# Altium footprint library PCB1.PcbLib: 26 footprints (part 1 of 2)
Each footprint in its own frame and in the unit in brackets; x right, y up, seen from the top. Pads: shape width x height; smd on the part's side, far side on the other; paste and mask are expansions set on the pad; w line width, h text height; cw(c..) or ccw(c..) is an arc to the next point about the centre after c.
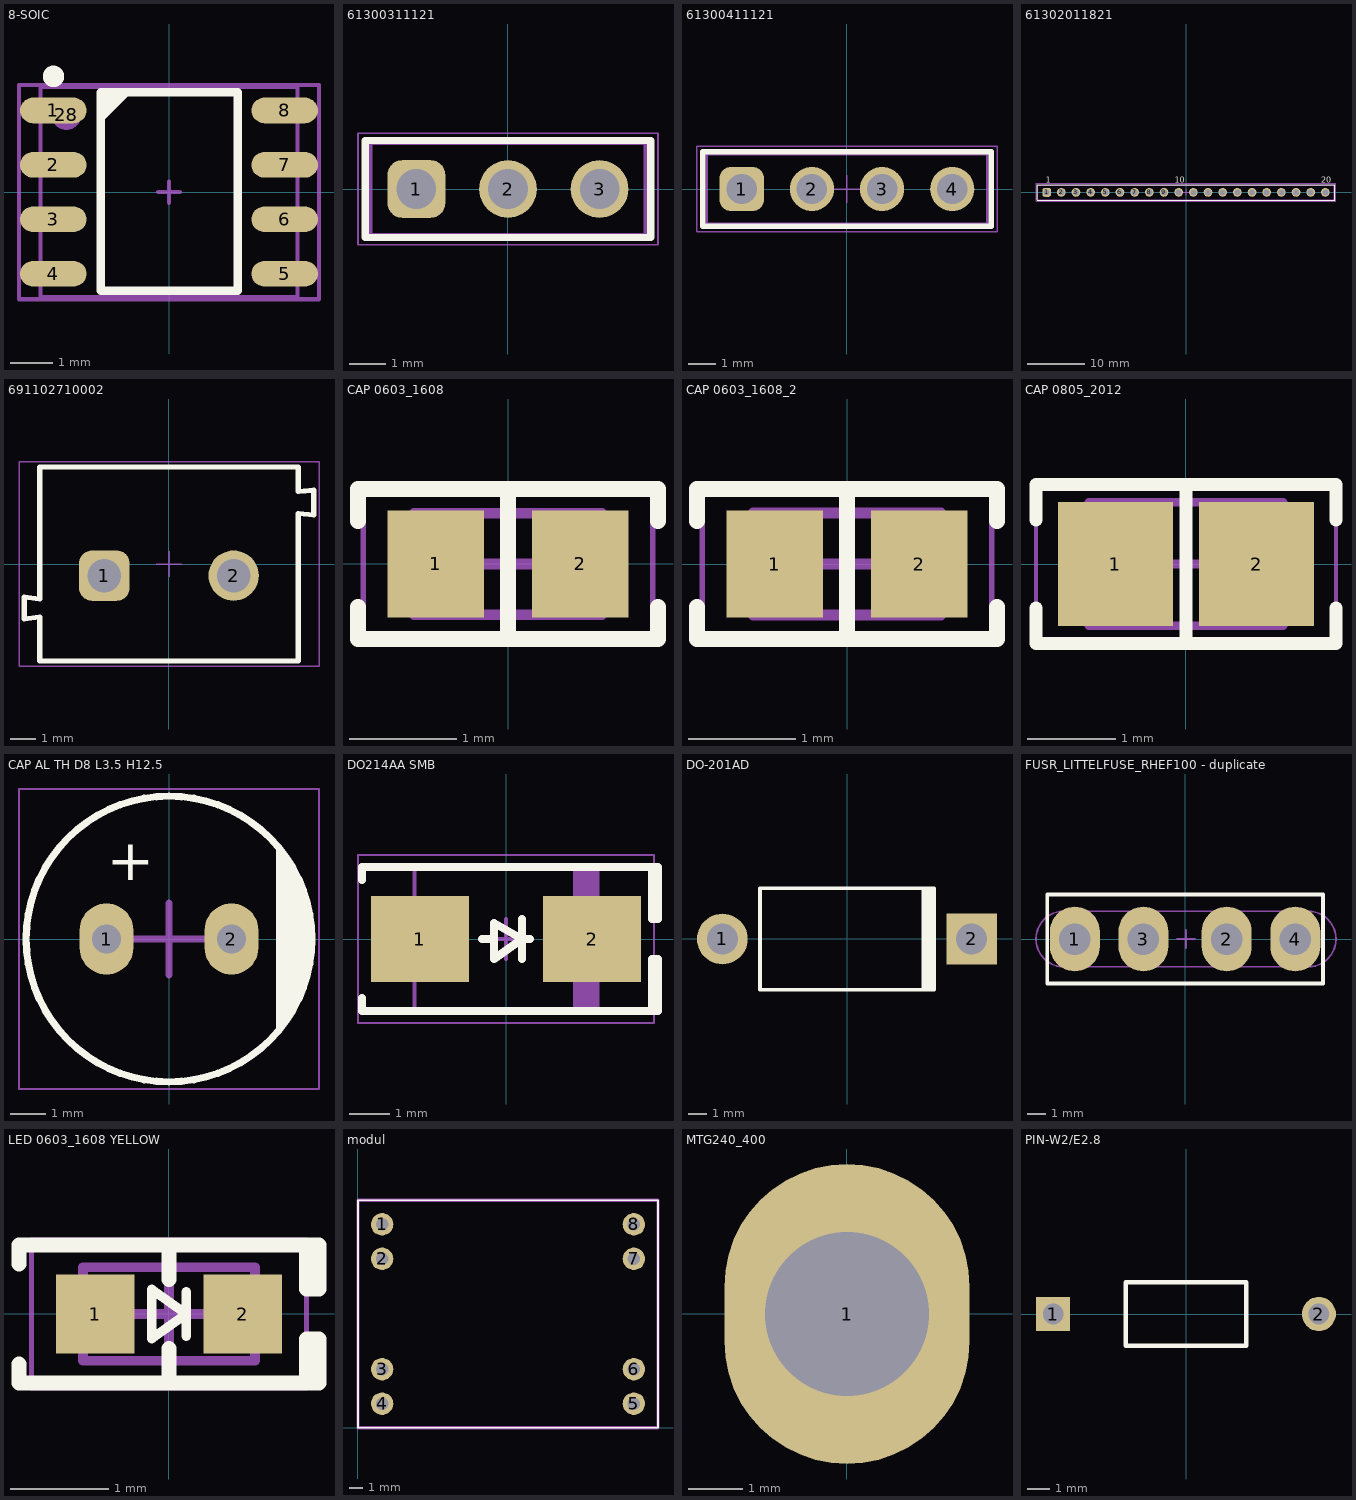
[diagram p0: the footprints below, top view; thin cyan lines are the x and y axes]

## 8-SOIC [mm] "pitch 1.27 mm"
pads (9):
  rrect100% 1.55x0.6 smd: 1(-2.7,1.905) 2(-2.7,0.635) 3(-2.7,-0.635) 4(-2.7,-1.905) 5(2.7,-1.905) 6(2.7,-0.635) 7(2.7,0.635) 8(2.7,1.905)
  round 0.7 on Mech1: 28(-2.395,1.8)
Top Overlay:
  circle w0.25: c-2.695,2.7 r0.125
  region: -1.595,2.325 -1.595,1.605 -0.875,2.325
  lines w0.2: -1.595,-2.3 1.605,-2.3 1.605,2.325 -1.595,2.325 -1.595,-2.3
Mechanical 1:
  lines w0.1: -3,-2.45 -3,2.45 3,2.45 3,-2.45 -3,-2.45
Mechanical 15:
  lines w0.1: -0.25,0 0.25,0 ; 0,-0.25 0,0.25 ; -3.5,-2.5 -3.5,2.5 3.5,2.5 3.5,-2.5 -3.5,-2.5
3D body "User Library-SOIC-8-1.STEP": height 1.75, standoff 0, extent -3,-2.45 3,2.45

## 61300311121 [mm] "Pin Header, pitch 2.54 mm, THT, Vertical, single row, 3p"
height 8.54
pads (3):
  rrect50% 1.6x1.6 hole 1.1: 1(-2.54,0)
  round 1.6 hole 1.1: 2(0,0) 3(2.54,0)
Top Overlay:
  lines w0.2: -3.96,-1.345 3.96,-1.345 3.96,1.345 -3.96,1.345 -3.96,-1.345
Top 3D Body:
  lines w0.1: -3.81,-1.27 -3.81,1.27 3.81,1.27 3.81,-1.27 -3.81,-1.27
Top Courtyard:
  lines w0.05: -0.5,0 0.5,0 ; 0,-0.5 0,0.5 ; -4.16,-1.545 -4.16,1.545 4.16,1.545 4.16,-1.545 -4.16,-1.545
Top Assembly:
  lines w0.1: -3.81,-1.27 -3.81,1.27 3.81,1.27 3.81,-1.27 -3.81,-1.27
  text ".Designator" at -7.498,-0.5 h1.5
3D body "61300311121.stp": height 8.57, standoff -2.97, extent -3.81,-1.27 3.81,1.27

## 61300411121 [mm] "Pin Header, pitch 2.54 mm, THT, Vertical, single row, 4p"
height 8.54
pads (4):
  rrect50% 1.6x1.6 hole 1.1: 1(-3.81,0)
  round 1.6 hole 1.1: 2(-1.27,0) 3(1.27,0) 4(3.81,0)
Top Overlay:
  lines w0.2: -5.23,-1.345 -5.23,1.345 5.23,1.345 5.23,-1.345 -5.23,-1.345
Top 3D Body:
  lines w0.1: -5.08,-1.27 5.08,-1.27 5.08,1.27 -5.08,1.27 -5.08,-1.27
Top Courtyard:
  lines w0.05: -0.5,0 0.5,0 ; 0,-0.5 0,0.5 ; -5.43,-1.545 5.43,-1.545 5.43,1.545 -5.43,1.545 -5.43,-1.545
Top Assembly:
  lines w0.1: -5.08,-1.27 5.08,-1.27 5.08,1.27 -5.08,1.27 -5.08,-1.27
  text ".Designator" at -7.498,-0.5 h1.5
3D body "61300411121.stp": height 8.57, standoff -2.97, extent -5.08,-1.27 5.08,1.27

## 61302011821 [mm] "Socket Header, Pitch 2.54 mm, THT, Vertical, single row, 20p"
height 8.5
pads (20):
  rrect50% 1.52x1.52 hole 1.02: 1(-24.13,0)
  round 1.52 hole 1.02: 2(-21.59,0) 3(-19.05,0) 4(-16.51,0) 5(-13.97,0) 6(-11.43,0) 7(-8.89,0) 8(-6.35,0) 9(-3.81,0) 10(-1.27,0) 11(1.27,0) 12(3.81,0) 13(6.35,0) 14(8.89,0) 15(11.43,0) 16(13.97,0) 17(16.51,0) 18(19.05,0) 19(21.59,0) 20(24.13,0)
Top Overlay:
  lines w0.2: -25.775,-1.35 -25.775,1.35 25.775,1.35 25.775,-1.35 -25.775,-1.35
  text "10" at -1.95,1.7 h1.02
  text "1" at -24.32,1.7 h1.02
  text "20" at 23.4,1.7 h1.02
Top 3D Body:
  lines w0.1: -25.65,-1.25 -25.65,1.25 25.65,1.25 25.65,-1.25 -25.65,-1.25
Top Courtyard:
  lines w0.05: -0.5,0 0.5,0 ; 0,-0.5 0,0.5 ; -25.975,-1.55 -25.975,1.55 25.975,1.55 25.975,-1.55 -25.975,-1.55
Top Assembly:
  lines w0.1: -25.65,-1.25 -25.65,1.25 25.65,1.25 25.65,-1.25 -25.65,-1.25
  text ".Designator" at -7.498,-0.5 h1.5
3D body "61302011821.stp": height 8.55, standoff -3.06, extent -25.65,-1.25 25.65,1.25

## 691102710002 [mm] "5,00mm - modular - blue - Horizontal entry with pressure clamp - 9,9 mm height - 02p"
height 9.9
pads (2):
  rrect50% 1.95x1.95 hole 1.3: 1(-2.5,-0.45)
  round 1.95 hole 1.3: 2(2.5,-0.45)
Top Overlay:
  lines w0.2: -5.6,-2.125 -5.6,-1.275 -5,-1.35 -5,3.75 5,3.75 5,2.8 5.6,2.85 5.6,1.9 5,1.95 5,-3.75 -5,-3.75 -5,-2.05 -5.6,-2.125
Mechanical 11:
  lines w0.1: -5.6,-2.125 -5,-2.05 -5,-3.75 5,-3.75 5,1.95 5.6,1.9 5.6,2.85 5,2.8 5,3.75 -5,3.75 -5,-1.35 -5.6,-1.275 -5.6,-2.125
  text ".Designator" at -1.75,-0.75 h1.5
Mechanical 13:
  lines w0.1: -5.6,-2.125 -5.6,-1.275 -5,-1.35 -5,3.75 5,3.75 5,2.8 5.6,2.85 5.6,1.9 5,1.95 5,-3.75 -5,-3.75 -5,-2.05 -5.6,-2.125
Mechanical 15:
  lines w0.05: -0.5,0 0.5,0 ; 0,-0.5 0,0.5 ; -5.8,-3.95 -5.8,3.95 5.8,3.95 5.8,-3.95 -5.8,-3.95
3D body "691102710002.stp": height 9.96, standoff -3.44, extent -5.6,-3.75 5.6,3.75

## CAP 0603_1608 [mm] "Chip Capacitor, 2-Leads, Body 1.60x0.80mm, IPC Medium Density"
height 0.89
pads (2):
  rect 0.9x1 smd: 1(-0.675,0) 2(0.675,0)
Top Overlay:
  lines w0.15: -1.4,-0.4 -1.4,-0.7 1.4,-0.7 1.4,-0.4 ; -1.4,0.4 -1.4,0.7 1.4,0.7 1.4,0.4 ; 0,-0.7 0,0.7
Mechanical 13:
  lines w0.1: -0.875,-0.475 0.875,-0.475 0.875,0.475 -0.875,0.475 -0.875,-0.475
Mechanical 15:
  lines w0.05: -1.35,-0.75 1.35,-0.75 1.35,0.75 -1.35,0.75 -1.35,-0.75
  lines w0.1: -0.475,0 0.475,0 ; 0,-0.475 0,0.475
3D body "0603 cap.STEP": height 0.82, standoff 0, extent -0.8,-0.412 0.8,0.412

## CAP 0603_1608_2 [mm]
pads (2):
  rect 0.9x1 smd: 1(-0.675,0) 2(0.675,0)
Top Overlay:
  lines w0.15: -1.4,-0.4 -1.4,-0.7 1.4,-0.7 1.4,-0.4 ; -1.4,0.4 -1.4,0.7 1.4,0.7 1.4,0.4 ; 0,-0.7 0,0.7
Mechanical 13:
  lines w0.1: -0.875,-0.475 -0.875,0.475 0.875,0.475 0.875,-0.475 -0.875,-0.475
Mechanical 15:
  lines w0.05: -1.35,-0.75 -1.35,0.75 1.35,0.75 1.35,-0.75 -1.35,-0.75
  lines w0.1: -0.475,0 0.475,0 ; 0,-0.475 0,0.475
3D body "0603 cap.STEP": height 0.82, standoff 0, extent -0.8,-0.412 0.8,0.412

## CAP 0805_2012 [mm] "Chip Capacitor, 2-Leads, Body 2.00x1.20mm, IPC Medium Density"
height 1.15
pads (2):
  rect 1.3x1.4 smd: 1(-0.8,0) 2(0.8,0)
Top Overlay:
  lines w0.15: -1.7,-0.5 -1.7,-0.9 1.7,-0.9 1.7,-0.5 ; -1.7,0.5 -1.7,0.9 1.7,0.9 1.7,0.5 ; 0,-0.9 0,0.9
Mechanical 13:
  lines w0.1: -1.1,-0.7 1.1,-0.7 1.1,0.7 -1.1,0.7 -1.1,-0.7
Mechanical 15:
  lines w0.05: -1.7,-0.95 1.7,-0.95 1.7,0.95 -1.7,0.95 -1.7,-0.95
  lines w0.1: -0.5,0 0.5,0 ; 0,-0.5 0,0.5
3D body "0805 cap.STEP": height 1.26, standoff -0.02, extent -1,-0.637 1,0.637

## CAP AL TH D8 L3.5 H12.5 [mm] "8MM Diameter, 3.5MM Lead Spacing Aluminium Capacitor"
height 12.5
pads (2):
  oval 1.5x2 hole 0.8: 1(-1.75,0) 2(1.75,0)
Top Overlay:
  circle w0.2: c0,0 r4
  region: 3,2.5 3.5,2 4,0.5 4,-0.75 3.75,-1.5 3.25,-2.25 3,-2.75
  text "+" at -1.75,1.25 h2
Mechanical 13:
  circle w0.1: c0,0 r4
  lines w0.1: 3.1,-2.5 3.1,2.5
Mechanical 15:
  lines w0.05: -4.2,-4.2 -4.2,4.2 4.2,4.2 4.2,-4.2 -4.2,-4.2
  lines w0.2: -1,0 1,0 ; 0,-1 0,1
3D body "CAP ALTH D8 L3.5 H12.5.step": height 11.5, standoff -2.5, extent -4,-4 4,4

## DO214AA SMB [mm] "Molded Diode, 2-Leads, Body 4.31x3.62mm, IPC Medium Density"
height 2.44
pads (2):
  rect 2.45x2.15 smd: 1(-2.15,0) 2(2.15,0)
Top Overlay:
  lines w0.2: -3.6,-1.475 -3.6,-1.8 3.8,-1.8 3.8,-0.5 3.65,-0.5 3.65,-1.8 ; -3.6,1.475 -3.6,1.8 3.8,1.8 3.8,0.5 3.65,0.5 3.65,1.8 ; -0.6,0 -0.3,0 ; 0.4,-0.5 0.4,0.5 ; 0.6,0 0.4,0 ; 0.4,0 -0.3,0.4 -0.3,-0.5 0.4,0
Mechanical 13:
  rectangle: 1.67,-1.8 2.285,1.8
  lines w0.1: -2.285,-1.8 2.285,-1.8 2.285,1.8 -2.285,1.8 -2.285,-1.8
Mechanical 15:
  lines w0.05: -3.7,-2.1 3.7,-2.1 3.7,2.1 -3.7,2.1 -3.7,-2.1
  lines w0.1: -0.5,0 0.5,0 ; 0,-0.5 0,0.5
3D body "SMB.STEP": height 2.4, standoff 0, extent -2.6,-1.799 2.6,1.8

## DO-201AD [mm] "Diode, Axial; Body 9.5 x 5.6 mm (LxDia. max), Lead Dia. 1.32 mm (max)"
height 5.6
pads (2):
  round 2.8 hole 1.7: 1(-6.88,0)
  rect 2.8x2.8 hole 1.7: 2(6.88,0)
Top Overlay:
  rectangle: 4.1,-2.8 4.9,2.8
  lines w0.2: 4.8,-2.8 -4.8,-2.8 -4.8,2.8 4.8,2.8

## FUSR_LITTELFUSE_RHEF100 - duplicate [mm] "Radial-Leaded PolySwitch® PTC Resettable Fuse, Diameter 9.7mm Width 3mm"
height 13.6
pads (4):
  oval 2.7x3.5 hole 1.7: 1(-5.95,0) 2(2.25,0) 3(-2.25,0) 4(5.95,0)
Top Overlay:
  lines w0.2: -5.625,1.498 ccw(c-5.55,0) -7.05,0 ccw(c-5.55,0) -5.55,-1.5 ; -7.45,-2.399 7.45,-2.399 7.45,2.401 -7.45,2.399 -7.45,-2.399
Mechanical 8:
  circle w0.1: c2.59,-0.845 r0.4
  circle w0.1: c2.59,-0.845 r0.255
  circle w0.1: c-2.49,0.845 r0.4
  circle w0.1: c-2.49,0.845 r0.255
  lines w0.1: -6.19,0.845 -5.69,0.845 ; -5.69,0.345 -5.69,0.845 ; -5.69,1.345 -5.69,0.845 ; -2.49,0.845 -1.99,0.845 ; -0.45,0 0.05,0 ; 0.05,-0.5 0.05,0 ; 0.05,0.5 0.05,0 ; 0.55,0 0.05,0 ; 2.09,-0.845 2.59,-0.845 ; 5.84,-1.345 5.84,-0.845 ; 5.84,-0.345 5.84,-0.845 ; 6.34,-0.845 5.84,-0.845
Mechanical 14:
  lines w0.1: -8.05,0 cw(c-6.55,0) -6.55,1.5 6.65,1.5 cw(c6.65,0) 8.15,0 cw(c6.65,0) 6.65,-1.5 -6.55,-1.5 cw(c-6.55,0) -8.05,0
3D body "FUSR_LITTELFUSE_RHEF100.stp": height 13.6, standoff -3, extent -4.9,-1.567 4.8,1.4

## LED 0603_1608 YELLOW [mm] "Chip Diode, 2-Leads, Body 1.60x0.80mm, IPC Medium Density"
height 0.45
pads (2):
  rect 0.8x0.8 smd: 1(-0.75,0) 2(0.75,0)
Top Overlay:
  lines w0.1: 0.175,-0.225 0.175,0 ; 0.175,0.225 0.175,0 ; 0.175,0 -0.175,-0.25 -0.175,0 -0.175,0.25 0.175,0
  lines w0.15: -1.524,-0.508 -1.524,-0.7 1.4,-0.7 ; -1.524,0.508 -1.524,0.7 1.5,0.7 ; 0,-0.7 0,-0.35 ; 0,0.35 0,0.7 ; 1.397,-0.7 1.397,-0.254 1.524,-0.254 1.524,-0.7 1.397,-0.7 ; 1.397,0.254 1.397,0.7 1.524,0.7 1.524,0.254 1.397,0.254
Mechanical 13:
  lines w0.1: -0.875,-0.475 0.875,-0.475 0.875,0.475 -0.875,0.475 -0.875,-0.475
Mechanical 15:
  lines w0.05: -1.397,-0.75 1.397,-0.75 1.397,0.75 -1.397,0.75 -1.397,-0.75
  lines w0.1: -0.475,0 0.475,0 ; 0,-0.475 0,0.475
3D body "LED 0603 Base YELLOW.STEP": height 0.28, standoff 0, extent -0.8,-0.4 0.8,0.4
3D body "LED 0603 Lens YELLOW.STEP": height 0.53, standoff 0.18, extent -0.55,-0.4 0.55,0.4

## modul [mil]
height 330.71
pads (8):
  round 64.96 hole 36: 1(70,590) 2(70,490) 3(70,170) 4(70,70) 5(800,70) 6(800,170) 7(800,490) 8(800,590)
Top Overlay:
  lines w5: 0,0 0,660 870,660 870,0 0,0
Mechanical 1:
  lines w10: 0,0 0,660 870,660 870,0 0,0

## MTG240_400 [mm] "Plated Through Hole: Hole Dia.=2.4mm Pad Dia.=4.0mm"
pads (1):
  oval 4.5x5.5 hole 3: 1(0,0)

## PIN-W2/E2.8 [mm] "Thru-Hole; 2 Leads"
pads (2):
  rect 1.5x1.5 hole 0.9: 1(-5.825,0)
  round 1.5 hole 0.9: 2(5.825,0)
Top Overlay:
  lines w0.2: -2.65,-1.4 2.65,-1.4 2.65,1.4 -2.65,1.4 -2.65,-1.4